# EAGLE library part BME680 (library eigenebib)
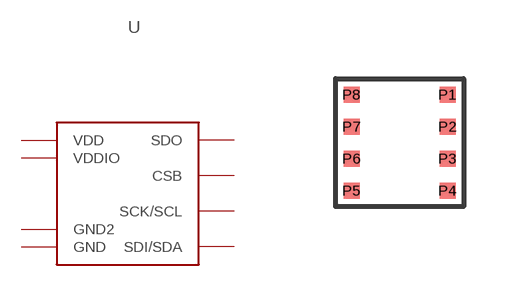
[diagram p4: symbol with the pads of BME680; footprint BME680]

Designator prefix -

## BME680  [BME680]
P1  GND  pwr
P2  CSB
P3  SDI/SDA
P4  SCK/SCL
P5  SDO
P6  VDDIO  pwr
P7  GND2  pwr
P8  VDD  pwr

## Footprint BME680 (pad centres in mm)
smd 0.4 x 0.4: P1 1.2,1.2; P2 1.2,0.4; P3 1.2,-0.4; P4 1.2,-1.2; P5 -1.2,-1.2; P6 -1.2,-0.4; P7 -1.2,0.4; P8 -1.2,1.2